# Altium schematic symbol library 86BOptionsBlock.Schlib: 1 symbol
Pins are listed as number, name and electrical type; pins without a type are passive.

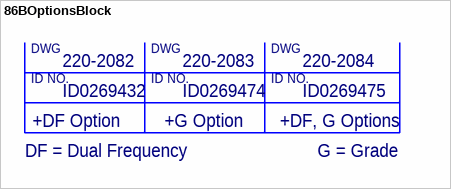
[diagram p0: symbol 86BOptionsBlock]

## 86BOptionsBlock
designator TB?
text: DWG; 220-2082; 220-2083; 220-2084; ID NO.; ID0269432; ID0269474; ID0269475; +DF Option; +G Option; +DF, G Options; DF = Dual Frequency; G = Grade